# EAGLE library part LTM8050IY#PBF-ND (library LTM8050IY#PBF-ND)
58V, 2A Step-Down Module Regulator, BGA-70 Source: Datasheet <http://www.linear.com/docs/43528>
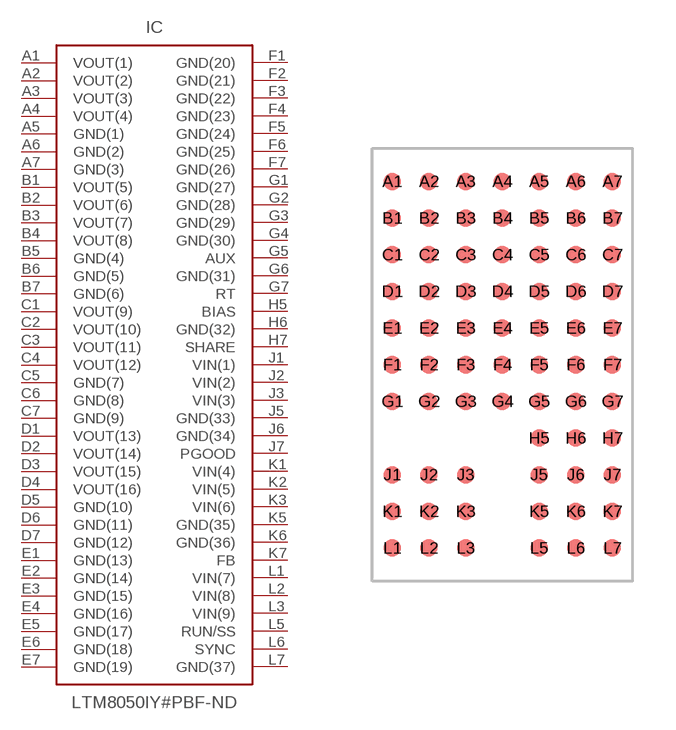
[diagram p0: symbol with the pads of BGA70C127P7X11_900X1500X512; footprint BGA70C127P7X11_900X1500X512]

Designator prefix IC

## LTM8050IY#PBF-ND (DESCRIPTION: 58V, 2A Step-Down Module Regulator, BGA-70; HEIGHT: 5.12mm; MANUFACTURER_NAME: Linear Technology; MANUFACTURER_PART_NUMBER: LTM8050IY#PBF-ND; SUPPLIER_NAME: RS)  [BGA70C127P7X11_900X1500X512]
A1  VOUT(1)  pas
A2  VOUT(2)  pas
A3  VOUT(3)  pas
A4  VOUT(4)  pas
A5  GND(1)  pas
A6  GND(2)  pas
A7  GND(3)  pas
B1  VOUT(5)  pas
B2  VOUT(6)  pas
B3  VOUT(7)  pas
B4  VOUT(8)  pas
B5  GND(4)  pas
B6  GND(5)  pas
B7  GND(6)  pas
C1  VOUT(9)  pas
C2  VOUT(10)  pas
C3  VOUT(11)  pas
C4  VOUT(12)  pas
C5  GND(7)  pas
C6  GND(8)  pas
C7  GND(9)  pas
D1  VOUT(13)  pas
D2  VOUT(14)  pas
D3  VOUT(15)  pas
D4  VOUT(16)  pas
D5  GND(10)  pas
D6  GND(11)  pas
D7  GND(12)  pas
E1  GND(13)  pas
E2  GND(14)  pas
E3  GND(15)  pas
E4  GND(16)  pas
E5  GND(17)  pas
E6  GND(18)  pas
E7  GND(19)  pas
F1  GND(20)  pas
F2  GND(21)  pas
F3  GND(22)  pas
F4  GND(23)  pas
F5  GND(24)  pas
F6  GND(25)  pas
F7  GND(26)  pas
G1  GND(27)  pas
G2  GND(28)  pas
G3  GND(29)  pas
G4  GND(30)  pas
G5  AUX  pas
G6  GND(31)  pas
G7  RT  pas
H5  BIAS  pas
H6  GND(32)  pas
H7  SHARE  pas
J1  VIN(1)  pas
J2  VIN(2)  pas
J3  VIN(3)  pas
J5  GND(33)  pas
J6  GND(34)  pas
J7  PGOOD  pas
K1  VIN(4)  pas
K2  VIN(5)  pas
K3  VIN(6)  pas
K5  GND(35)  pas
K6  GND(36)  pas
K7  FB  pas
L1  VIN(7)  pas
L2  VIN(8)  pas
L3  VIN(9)  pas
L5  RUN/SS  pas
L6  SYNC  pas
L7  GND(37)  pas

## Footprint BGA70C127P7X11_900X1500X512 (pad centres in mm)
BGA Package 70-Lead (15mm x 9mm x 4.92mm)
smd 0.612 x 0.612: A1 -3.81,6.35; A2 -2.54,6.35; A3 -1.27,6.35; A4 0,6.35; A5 1.27,6.35; A6 2.54,6.35; A7 3.81,6.35; B1 -3.81,5.08; B2 -2.54,5.08; B3 -1.27,5.08; B4 0,5.08; B5 1.27,5.08; B6 2.54,5.08; B7 3.81,5.08; C1 -3.81,3.81; C2 -2.54,3.81; C3 -1.27,3.81; C4 0,3.81; C5 1.27,3.81; C6 2.54,3.81; C7 3.81,3.81; D1 -3.81,2.54; D2 -2.54,2.54; D3 -1.27,2.54; D4 0,2.54; D5 1.27,2.54; D6 2.54,2.54; D7 3.81,2.54; E1 -3.81,1.27; E2 -2.54,1.27; E3 -1.27,1.27; E4 0,1.27; E5 1.27,1.27; E6 2.54,1.27; E7 3.81,1.27; F1 -3.81,0; F2 -2.54,0; F3 -1.27,0; F4 0,0; F5 1.27,0; F6 2.54,0; F7 3.81,0; G1 -3.81,-1.27; G2 -2.54,-1.27; G3 -1.27,-1.27; G4 0,-1.27; G5 1.27,-1.27; G6 2.54,-1.27; G7 3.81,-1.27; H5 1.27,-2.54; H6 2.54,-2.54; H7 3.81,-2.54; J1 -3.81,-3.81; J2 -2.54,-3.81; J3 -1.27,-3.81; J5 1.27,-3.81; J6 2.54,-3.81; J7 3.81,-3.81; K1 -3.81,-5.08; K2 -2.54,-5.08; K3 -1.27,-5.08; K5 1.27,-5.08; K6 2.54,-5.08; K7 3.81,-5.08; L1 -3.81,-6.35; L2 -2.54,-6.35; L3 -1.27,-6.35; L5 1.27,-6.35; L6 2.54,-6.35; L7 3.81,-6.35